# EAGLE library part CSD16327Q3 (library CSD16327Q3)
MOSFET N-Channel NexFET Pwr MOSFET Source: Datasheet
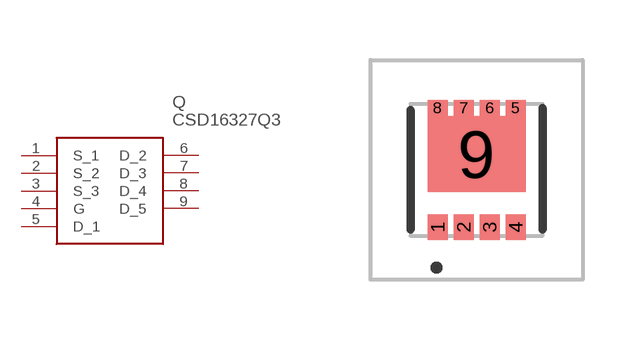
[diagram p0: symbol with the pads of CSD16327Q3; footprint CSD16327Q3]

Designator prefix Q

## CSD16327Q3 (Description: MOSFET N-Channel NexFET Pwr MOSFET; Height: 1.1mm; Manufacturer_Name: Texas Instruments; Manufacturer_Part_Number: CSD16327Q3; Mouser_Part_Number: 595-CSD16327Q3; Mouser_Price-Stock: https://www.mouser.co.uk/ProductDetail/Texas-Instruments/CSD16327Q3?qs=3jfYfyvUSwCG33cNK3hedw%3D%3D)  [CSD16327Q3]
1  S_1
2  S_2
3  S_3
4  G
5  D_1
6  D_2
7  D_3
8  D_4
9  D_5

## Footprint CSD16327Q3 (pad centres in mm)
CSD16327Q3-5
smd 0.5 x 0.63: 1 -0.975,-1.435; 2 -0.325,-1.435; 3 0.325,-1.435; 4 0.975,-1.435
smd 0.5 x 0.41: 5 0.975,1.545; 6 0.325,1.545; 7 -0.325,1.545; 8 -0.975,1.545
smd 2.45 x 1.9: 9 0,0.39